# Altium schematic symbol library ST25RU3993_RF_MODULE.SCHLIB: 256 symbols (part 5 of 8)
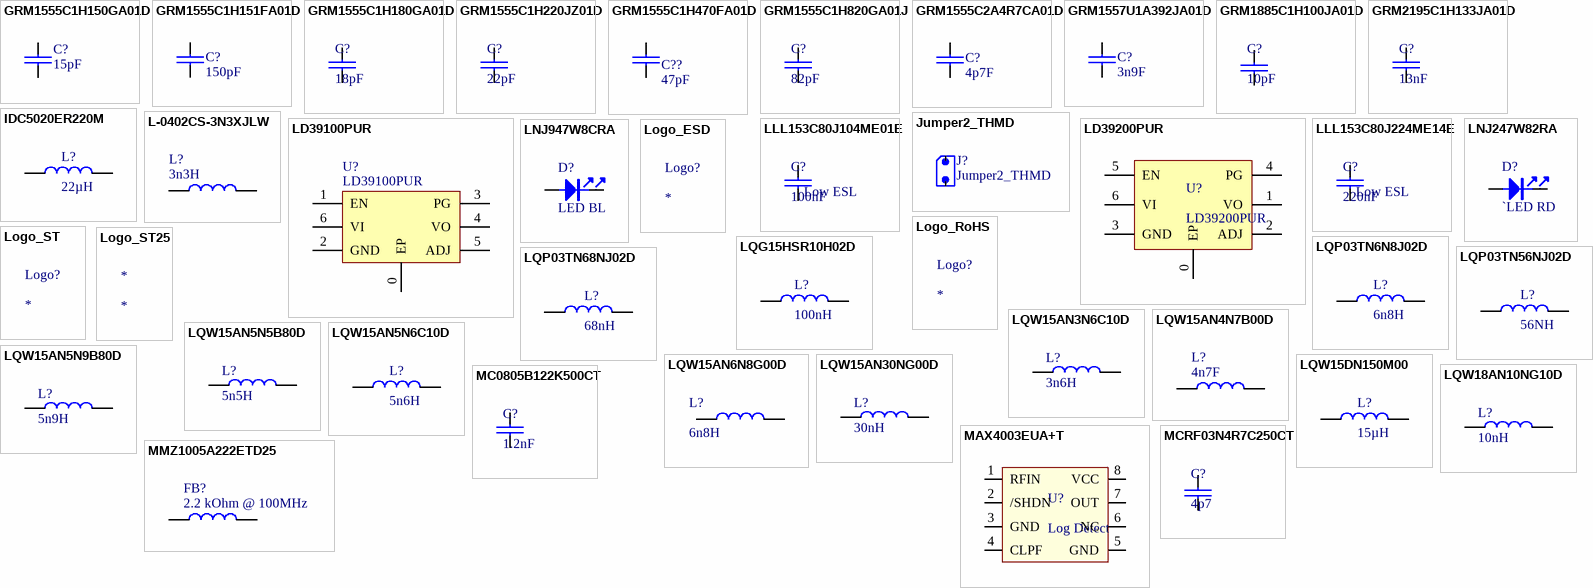
[diagram p10: symbols GRM1555C1H150GA01D to MMZ1005A222ETD25]

## GRM1885C1H100JA01D
designator C?, comment 10pF
CAP CER 10PF 50V NP0 0603; Manufacturer: Murata; Manufacturer Part Number: GRM1885C1H100JA01D; Dielectric Material: Ceramic; Dielectric: C0G; Tolerance: 5%; Temperature Coefficient: 30ppm/°C; Insulation Resistance: 10GR; Supplier 1: Future Electronics; Supplier Part Number 1: GRM1885C1H100JA01D-CUTT; RoHS: Yes; Stock: 547; Pricing: 1 = 0.03990, 100 = 0.02940, 250 = 0.02770, 500 = 0.02640, 1500 = 0.02300 (USD); Mount: Surface Mount; Case/Package: 0603; Number of Pins: 2; Case Code (Imperial): 0603; Case Code (Metric): 1608; Material: Ceramic; Min Operating Temperature: -55°C; Max Operating Temperature: 125°C; Capacitance: 10pF; Packaging: Tape and Reel; Voltage Rating: 50V; Voltage Rating (DC): 50V; Package Quantity: 1; Termination: SMD/SMT; Voltage: 50V; Length: 1.6mm; Height: 0.8mm; Width: 0.8mm; Thickness: 0.035inch; Depth: 0.8mm; Radiation Hardening: No; Lead Free: Lead Free; REACH SVHC: No SVHC; ComponentLink1URL: http://www.jameco.com/Jameco/Products/ProdDS/1856610.pdf; ComponentLink1Description: http://www.jameco.com/Jameco/Products/ProdDS/1856610.pdf; ComponentLink2URL: http://www.farnell.com/datasheets/2048236.pdf; ComponentLink2Description: http://www.farnell.com/datasheets/2048236.pdf; ComponentLink3URL: http://www.farnell.com/datasheets/1747452.pdf; ComponentLink3Description: http://www.farnell.com/datasheets/1747452.pdf; ComponentLink4URL: http://www.farnell.com/datasheets/4360.pdf; ComponentLink4Description: http://www.farnell.com/datasheets/4360.pdf; ComponentLink5URL: http://www.murata.com/products/catalog/pdf/c02e.pdf; ComponentLink5Description: http://www.murata.com/products/catalog/pdf/c02e.pdf; ComponentLink6URL: https://www.distrelec.biz/Web/Downloads/_t/ds/murata_MLCC_eng_tds.pdf?mime=application%2Fpdf; ComponentLink6Description: https://www.distrelec.biz/Web/Downloads/_t/ds/murata_MLCC_eng_tds.pdf?mime=application%2Fpdf; ComponentLink7URL: https://www.murata.com/~/media/webrenewal/support/library/catalog/products/capacitor/mlcc/c02e.ashx?la=en-us; ComponentLink7Description: https://www.murata.com/~/media/webrenewal/support/library/catalog/products/capacitor/mlcc/c02e.ashx?la=en-us; ComponentLink8URL: https://www.verical.com/server-webapp/html/getDatasheet?partID=161483; ComponentLink8Description: https://www.verical.com/server-webapp/html/getDatasheet?partID=161483; ComponentLink9URL: https://produktinfo.conrad.com/datenblaetter/450000-474999/450117-da-01-en-VS_KONDENSATOR_0603.pdf; ComponentLink9Description: https://produktinfo.conrad.com/datenblaetter/450000-474999/450117-da-01-en-VS_KONDENSATOR_0603.pdf
footprint C0603
pins: 1, 2

## GRM2195C1H133JA01D
designator C?, comment 13nF
Cap Ceramic 0.013uF 50V C0G 5% SMD 0805 125°C Paper T/R; Manufacturer: Murata; Manufacturer Part Number: GRM2195C1H133JA01D; Supplier 1: Digi-Key; Supplier Part Number 1: 490-12752-1-ND; Stock: 6548; Pricing: 1 = 0.43000, 10 = 0.30000, 100 = 0.17980, 500 = 0.13482, 1000 = 0.11385 (USD); Mount: Surface Mount; Case/Package: 0805; Case Code (Metric): 2012; Case Code (Imperial): 0805; Min Operating Temperature: -55°C; Max Operating Temperature: 125°C; Package Quantity: 4000; Capacitance: 13nF; Voltage Rating: 50V; Tolerance: 5%; Packaging: Tape and Reel; Voltage Rating (DC): 50V; Dielectric: C0G; Termination: SMD/SMT; Voltage: 50V; Length: 2mm; Height: 0.85mm; Width: 0.049inch; Thickness: 0.037inch; Depth: 1.25mm; Radiation Hardening: No; ComponentLink1URL: http://search.murata.co.jp/Ceramy/image/img/A01X/partnumbering_e_01.pdf; ComponentLink1Description: http://search.murata.co.jp/Ceramy/image/img/A01X/partnumbering_e_01.pdf; ComponentLink2URL: http://www.mouser.com/ds/2/281/c02e-2905.pdf; ComponentLink2Description: http://www.mouser.com/ds/2/281/c02e-2905.pdf; ComponentLink3URL: http://psearch.murata.com/capacitor/product/GRM2195C1H133JA01%23.pdf; ComponentLink3Description: http://psearch.murata.com/capacitor/product/GRM2195C1H133JA01%23.pdf; ComponentLink4URL: http://datasheet.octopart.com/GRM2195C1H133JA01D-Murata-datasheet-14401791.pdf; ComponentLink4Description: http://datasheet.octopart.com/GRM2195C1H133JA01D-Murata-datasheet-14401791.pdf; ComponentLink5URL: http://datasheet.octopart.com/GRM2195C1H133JA01D-Murata-datasheet-8819587.pdf; ComponentLink5Description: http://datasheet.octopart.com/GRM2195C1H133JA01D-Murata-datasheet-8819587.pdf; ComponentLink6URL: http://datasheet.octopart.com/GRM2195C1H133JA01D-Murata-datasheet-10025737.pdf; ComponentLink6Description: http://datasheet.octopart.com/GRM2195C1H133JA01D-Murata-datasheet-10025737.pdf; ComponentLink7URL: http://datasheet.octopart.com/GRM2195C1H133JA01D-Murata-datasheet-11978611.pdf; ComponentLink7Description: http://datasheet.octopart.com/GRM2195C1H133JA01D-Murata-datasheet-11978611.pdf; ComponentLink8URL: http://datasheet.octopart.com/GRM2195C1H133JA01D-Murata-datasheet-12510076.pdf; ComponentLink8Description: http://datasheet.octopart.com/GRM2195C1H133JA01D-Murata-datasheet-12510076.pdf; ComponentLink9URL: http://datasheet.octopart.com/GRM2195C1H133JA01D-Murata-datasheet-12515295.pdf; ComponentLink9Description: http://datasheet.octopart.com/GRM2195C1H133JA01D-Murata-datasheet-12515295.pdf; Supplier 2: Farnell; Supplier Part Number 2: 1759228; RoHS: Yes; REACH SVHC: Unknown
footprint C0805-ss
pins: 1, 2

## IDC5020ER220M
designator L?, comment 22µH
Fixed Inductors 22uH 20%; Manufacturer: Vishay Dale; Manufacturer Part Number: IDC5020ER220M; Core Material: Ferrite; DC Resistance (DCR): 85mR; Shielding: Unshielded; Test Frequency: 100kHz; Saturation Current: 2.6A; Current Rating: 2.7A; Supplier 1: Mouser; Supplier Part Number 1: 70-IDC5020ER220M; RoHS: Yes; Stock: 293; Pricing: 1 = 0.80000, 10 = 0.72500, 50 = 0.61800, 100 = 0.59900, 1000 = 0.51200, 10000 = 0.49600 (USD); Mount: Surface Mount; Case/Package: Nonstandard; Contact Plating: Tin; Min Operating Temperature: -40°C; Max Operating Temperature: 125°C; Tolerance: 20%; Packaging: Tape and Reel; Inductance: 22uh; Package Quantity: 500; Composition: Wirewound; Military Standard: Not; Termination: SMD/SMT; Max DC Current: 2.7A; Length: 12.95mm; Height: 5.21mm; Width: 9.4mm; Depth: 9.4mm; Height - Seated (Max): 0.205inch; Radiation Hardening: No; ComponentLink1URL: http://www.vishay.com/docs/34007/idc5020.pdf; ComponentLink1Description: http://www.vishay.com/docs/34007/idc5020.pdf
footprint IDC-5020 (High Current, Surface Mount Inductors - Non-Shielded)
pins: 1, 2

## Jumper2_THMD
designator J?
Manufacturer: Amphenol FCI; Manufacturer Part Number: 77311-118-02LF; Connector Type: Header; Pitch - Mating: 0.100" (2.54mm); Style: Board to Board; Shrouding: Unshrouded; Number of Positions: 2; Number of Positions Loaded: All; Contact Length - Mating: 0.230" (5.84mm); Contact Length - Post: 0.120" (3.05mm); Overall Contact Length: 0.450" (11.43mm); Material Flammability Rating: UL94 V-0; Supplier 1: Digi-Key; Supplier Part Number 1: 609-4434-ND; RoHS: RoHS Compliant; Category: Connectors, Interconnects; Stock: 19830; Pricing: 1=0.15, 10=0.143, 100=0.0986, 500=0.08348, 1000=0.06829, 5000=0.06071, 10000=0.05502 (EUR); Packaging: Bulk; Part Status: Active; Contact Type: Male Pin; Number of Rows: 1; Row Spacing - Mating: -; Mounting Type: Through Hole; Termination: Solder; Fastening Type: Push-Pull; Insulation Height: 0.100" (2.54mm); Contact Shape: Square; Contact Finish - Mating: Gold or Gold, GXT™; Contact Finish Thickness - Mating: 30µin (0.76µm); Contact Finish - Post: Tin; Contact Material: Phosphor Bronze; Insulation Material: Thermoplastic; Features: -; Operating Temperature: -; Ingress Protection: -; Insulation Color: Black; Current Rating: -; Voltage Rating: -; Mated Stacking Heights: -; Contact Finish Thickness - Post: 78.7µin (2.00µm); Applications: -; ComponentLink1URL: http://portal.fciconnect.com/Comergent//fci/drawing/77311.pdf; ComponentLink1Description: http://portal.fciconnect.com/Comergent//fci/drawing/77311.pdf
footprint PLUG_THMD_STRIP2 - DNP
pins: 1, 2

## L-0402CS-3N3XJLW
designator L?, comment 3n3H
INDUCTOR, 3.3NH, 5%, 7GHZ, SMD, REEL; Manufacturer 1: COILCRAFT; Manufacturer Part Number 1: 0402CS-3N3XJLW; Product Range: 0402; Inductance: 3.3; DC Current Rating: 840; High Frequency Inductor Case: 0402 [1005 Metric]; Inductor Construction: Wirewound; DC Resistance Max: 0.066; Self Resonant Frequency Min: 7; SVHC: No SVHC (15-Jun-2015); Automotive Qualification Standard: AEC-Q200; Reel Quantity: 2000; Exact Component Match: yes; Supplier 1: Farnell; Supplier Part Number 1: 2298469; RoHS: Y-EX; Pricing 1: 2000=0.28, 10000=0.258, 20000=0.253 (GBP); Inductance Tolerance: ± 5%; Packaging: Tape & Reel; Inductor Case Style: 0402 [1005 Metric]; ComponentLink1URL: http://www.farnell.com/datasheets/1681871.pdf; ComponentLink1Description: http://www.farnell.com/datasheets/1681871.pdf; Manufacturer: COILCRAFT; Manufacturer Part Number: 0402CS-3N3XJLW
footprint L0402-RF
pins: 1, 2

## LD39100PUR
designator U?
IC REG LDO ADJ 1A 6DFN; Manufacturer: STMicroelectronics; Regulator Topology: Positive Adjustable; Voltage - Output: 0.8 V ~ 4.5 V; Voltage - Dropout (Typical): 0.2V @ 1A; Number of Regulators: 1; Voltage - Input: 1.5 V ~ 5.5 V; Exact Component Match: yes; Supplier 1: Digi-Key; Supplier Part Number 1: 497-11013-6-ND; Manufacturer Part Number: LD39100PUR; RoHS: RoHS Compliant; Category: Integrated Circuits (ICs); Stock 1: 26415; Pricing 1: 1=0.77, 10=0.684, 100=0.5334, 500=0.4411, 1000=0.34883 (EUR); Packaging: Digi-Reel®; Part Status: Active; Current - Output: 1A; Current - Limit (Min): -; Operating Temperature: -40°C ~ 125°C; Mounting Type: Surface Mount; Package / Case: 6-VDFN Exposed Pad; Supplier Device Package: 6-DFN (3x3); ComponentLink1URL: http://www.st.com/content/ccc/resource/technical/document/datasheet/72/02/e5/ee/df/36/40/5e/CD00233788.pdf/files/CD00233788.pdf/jcr:content/translations/en.CD00233788.pdf; ComponentLink1Description: http://www.st.com/content/ccc/resource/technical/document/datasheet/72/02/e5/ee/df/36/40/5e/CD00233788.pdf/files/CD00233788.pdf/jcr:content/translations/en.CD00233788.pdf; Manufacturer 1: STMicroelectronics; Manufacturer Part Number 1: LD39100PUR
footprint LD39100PUR (1 A, low quiescent current, low-noise voltage regulator)
pins: 0 EP, 1 EN, 2 GND, 3 PG, 4 VO, 5 ADJ, 6 VI

## LD39200PUR
designator U?
Manufacturer: STMicroelectronics; Capacitance: 10uF; Tolerance: 20%; Dielectric: X6S; Voltage Rating (DC): 10V; Supplier 1: Digi-Key; Supplier Part Number 1: 497-17110-1-ND; Manufacturer Part Number: LD39200PUR; Stock: 2610; Pricing: 1=0.89, 10=0.796, 100=0.6207, 500=0.51274, 1000=0.40479 (USD); Supplier 2: Digi-Key; Supplier Part Number 2: 490-7197-1-ND; Mount: Surface Mount; Case/Package: 0603; Case Code (Metric): 1608; Case Code (Imperial): 0603; Material: Ceramic; Min Operating Temperature: -55°C; Max Operating Temperature: 105°C; Package Quantity: 4000; Packaging: Cut Tape; Voltage Rating: 10V; Length: 0.063inch; Height: 0.8mm; Width: 0.031inch; Thickness: 0.031inch; REACH SVHC: No SVHC; Lead Free: Lead Free; ComponentLink1URL: https://www.murata.com/~/media/webrenewal/support/library/catalog/products/capacitor/mlcc/c02e.ashx?la=en-us; ComponentLink1Description: https://www.murata.com/~/media/webrenewal/support/library/catalog/products/capacitor/mlcc/c02e.ashx?la=en-us
footprint LD39200PUR (2 A, low quiescent current, low-noise voltage regulator)
pins: 0 EP, 1 VO, 2 ADJ, 3 GND, 4 PG, 5 EN, 6 VI

## LLL153C80J104ME01E
designator C?, comment 100nF  Features: Low ESL
CAP CER 0.1UF 6.3V X6S 0204; Manufacturer: Murata Electronics North America; Manufacturer Part Number: LLL153C80J104ME01E; Tolerance: ±20%; Type: Steering (Rail to Rail); Voltage - Reverse Standoff (Typ): 5.25V; Voltage - Breakdown (Min): 6V; Power - Peak Pulse: 500W; Power Line Protection: Yes; Supplier 1: Digi-Key; RoHS: RoHS Compliant; Category: Capacitors; Stock: 1389; Pricing 1: 1=0.19, 10=0.133, 100=0.0671, 500=0.0459, 1000=0.04061, 2500=0.03884, 5000=0.03531 (EUR); Packaging: Cut Tape (CT); Part Status: Active; Voltage - Rated: 6.3V; Temperature Coefficient: X6S; Operating Temperature: -55°C ~ 105°C; Ratings: -; Applications: Bypass, Decoupling; Mounting Type: Surface Mount, MLCC; Package / Case: 0204 (0510 Metric); Size / Dimension: 0.020" L x 0.039" W (0.50mm x 1.00mm); Height - Seated (Max): -; Thickness (Max): 0.014" (0.35mm); Lead Spacing: -; Lead Style: -; ComponentLink1URL: http://www.murata.com/~/media/webrenewal/support/library/catalog/products/capacitor/mlcc/c02e.ashx; ComponentLink1Description: http://www.murata.com/~/media/webrenewal/support/library/catalog/products/capacitor/mlcc/c02e.ashx; Supplier Part Number 1: 490-4310-1-ND; Supplier 2: Digi-Key; Pricing 2: 1=0.97, 10=0.867, 100=0.6756, 500=0.55814, 1000=0.44063 (EUR); Voltage - Clamping (Max) @ Ipp: -; Current - Peak Pulse (10/1000µs): -; Capacitance @ Frequency: -; Supplier Device Package: 8-SO; ComponentLink2URL: http://www.st.com/content/ccc/resource/technical/document/datasheet/3e/ec/b2/54/b2/76/47/90/CD00001361.pdf/files/CD00001361.pdf/jcr:content/translations/en.CD00001361.pdf; ComponentLink2Description: http://www.st.com/content/ccc/resource/technical/document/datasheet/3e/ec/b2/54/b2/76/47/90/CD00001361.pdf/files/CD00001361.pdf/jcr:content/translations/en.CD00001361.pdf; Supplier Part Number 2: 497-3281-1-ND
footprint C0402-LLL
pins: 1, 2

## LLL153C80J224ME14E
designator C?, comment 220nF  Features: Low ESL
CAP CER 0.22UF 6.3V X6S 0204; Manufacturer: Murata Electronics North America; Manufacturer Part Number: LLL153C80J224ME14E; Tolerance: ±20%; Supplier 1: Digi-Key; Category: Capacitors; Stock: 67835; Pricing 1: 1=0.2, 10=0.142, 100=0.0718, 500=0.04912, 1000=0.04347, 2500=0.04158, 5000=0.0378 (EUR); Packaging: Cut Tape (CT); Part Status: Active; Voltage - Rated: 6.3V; Temperature Coefficient: X6S; Operating Temperature: -55°C ~ 105°C; Ratings: -; Applications: Bypass, Decoupling; Mounting Type: Surface Mount, MLCC; Package / Case: 0204 (0510 Metric); Size / Dimension: 0.020" L x 0.039" W (0.50mm x 1.00mm); Height - Seated (Max): -; Thickness (Max): 0.014" (0.35mm); Lead Spacing: -; Lead Style: -; ComponentLink1URL: http://www.murata.com/~/media/webrenewal/support/library/catalog/products/capacitor/mlcc/c02e.ashx; ComponentLink1Description: http://www.murata.com/~/media/webrenewal/support/library/catalog/products/capacitor/mlcc/c02e.ashx; Supplier Part Number 1: 490-8384-1-ND; RoHS: RoHS Compliant
footprint C0402-LLL
pins: 1, 2

## LNJ247W82RA
designator D?, comment `LED RD
LED RED 0402 SMD; Manufacturer: Panasonic Electronic Components; Manufacturer Part Number: LNJ247W82RA; Millicandela Rating: 16mcd; Lens Style/Size: Rectangle with Flat Top, 0.70mm x 0.50mm; Voltage - Forward (Vf) (Typ): 1.95V; Current - Test: 5mA; Wavelength - Dominant: 630nm; Wavelength - Peak: 645nm; Supplier 1: Digi-Key; Supplier Part Number 1: LNJ247W82RACT-ND; RoHS: RoHS Compliant; Category: Optoelectronics; Stock: 202393; Pricing: 1=0.38, 10=0.265, 25=0.2296, 100=0.1768, 250=0.1436, 500=0.10606, 1000=0.08838, 2500=0.07954 (EUR); Packaging: Cut Tape (CT); Part Status: Not For New Designs; Color: Red; Lens Color: -; Lens Transparency: -; Viewing Angle: -; Mounting Type: Surface Mount; Features: -; Package / Case: 0402 (1005 Metric); Supplier Device Package: 1005 Type; Size / Dimension: 1.00mm L x 0.50mm W; Height (Max): 0.25mm; Base Part Number: LNJ*47; ComponentLink1URL: https://industrial.panasonic.com/content/data/SC/ds/ds4/LNJ247W82RA_E.pdf; ComponentLink1Description: https://industrial.panasonic.com/content/data/SC/ds/ds4/LNJ247W82RA_E.pdf
footprint LNJ947W8CRA (Blue 472nm LED Indication - Discrete 2.9V)
pins: 1, 2

## LNJ947W8CRA
designator D?, comment LED BL
LED BLUE 0402 SMD; Manufacturer 1: Panasonic Electronic Components; Manufacturer Part Number 1: LNJ947W8CRA; Millicandela Rating: 18mcd; Lens Style/Size: Rectangle with Flat Top, 0.70mm x 0.50mm; Voltage - Forward (Vf) (Typ): 2.9V; Current - Test: 5mA; Wavelength - Dominant: 472nm; Wavelength - Peak: 465nm; Exact Component Match: no; Supplier 1: Digi-Key; Supplier Part Number 1: LNJ947W8CRADKR-ND; RoHS: RoHS Compliant; Category: Optoelectronics; Stock 1: 48594; Pricing 1: 1=0.45, 10=0.35, 25=0.2852, 100=0.2269, 250=0.19444, 500=0.16852, 1000=0.12963, 2500=0.11666 (EUR); Packaging: Digi-Reel®; Part Status: Active; Color: Blue; Lens Color: -; Lens Transparency: -; Viewing Angle: -; Mounting Type: Surface Mount; Features: -; Package / Case: 0402 (1005 Metric); Supplier Device Package: 0402 (1005 Metric); Size / Dimension: 1.00mm L x 0.50mm W; Height (Max): 0.25mm; ComponentLink1URL: http://www.semicon.panasonic.co.jp/ds4/LNJ947W8CRA_E.pdf; ComponentLink1Description: http://www.semicon.panasonic.co.jp/ds4/LNJ947W8CRA_E.pdf; Manufacturer: Panasonic Electronic Components; Manufacturer Part Number: LNJ947W8CRA
footprint LNJ947W8CRA (Blue 472nm LED Indication - Discrete 2.9V)
pins: 1, 2

## Logo_ESD
designator Logo?
footprint Logo_ESD (Silk only)

## Logo_RoHS
designator Logo?
footprint Logo_RoHS (Silk only)
footprint logo_Rohs_large

## Logo_ST
designator Logo?  (no BOM)
footprint LOGO_STM_life (life.augmented)
footprint LOGO_STM (logo only)

## Logo_ST25
designator *
footprint Logo_ST25 (Silk Only)

## LQG15HSR10H02D
designator L?, comment 100nH
FIXED IND 100NH 200MA 1.25 OHM; Manufacturer: Murata Electronics North America; Manufacturer Part Number: LQG15HSR10H02D; Type: Multilayer; Material - Core: Air; Tolerance: ±3%; Shielding: Unshielded; DC Resistance (DCR): 1.25 Ohm Max; Supplier 1: Digi-Key; Supplier Part Number 1: 490-15137-1-ND; RoHS: RoHS Compliant; Category: Inductors, Coils, Chokes; Stock: 9800; Pricing: 1=0.08, 10=0.064, 100=0.0424, 500=0.0354, 1000=0.02973, 2500=0.02548 (EUR); Packaging: Cut Tape (CT); Part Status: Active; Ratings: -; Operating Temperature: -55°C ~ 125°C; Mounting Type: Surface Mount; Package / Case: 0402 (1005 Metric); Supplier Device Package: 0402 (1005 Metric); Size / Dimension: 0.039" L x 0.020" W (1.00mm x 0.50mm); Height - Seated (Max): 0.022" (0.55mm); ComponentLink1URL: http://search.murata.co.jp/Ceramy/image/img/P02/JELF243B-0010.pdf; ComponentLink1Description: http://search.murata.co.jp/Ceramy/image/img/P02/JELF243B-0010.pdf
footprint L0402-RF
pins: 1, 2

## LQP03TN6N8J02D
designator L?, comment 6n8H
Fixed Inductors 6.8nH 5% 500MHz; Manufacturer: Murata; Manufacturer Part Number: LQP03TN6N8J02D; Core Material: Non-Magnetic; DC Resistance (DCR): 600mR; Max DC Current: 300mA; Shielding: Unshielded; Self Resonant Frequency: 3.9GHz; Q Factor: 14; Supplier 1: Arrow; Supplier Part Number 1: LQP03TN6N8J02D; Stock: 0; Mount: Surface Mount; Case/Package: 0201; Weight: 6E-06oz; Case Code (Metric): 0603; Case Code (Imperial): 0201; Min Operating Temperature: -55°C; Max Operating Temperature: 125°C; Tolerance: 5%; Inductance: 6.8nh; Packaging: Tape and Reel; Package Quantity: 15000; Current Rating: 300mA; Composition: Thin Film; Test Frequency: 500MHz; Termination: SMD/SMT; DC Current: 300mA; Military Standard: Not; Length: 0.024inch; Height: 0.3mm; Depth: 0.33mm; Width: 0.012inch; Height - Seated (Max): 0.013inch; Radiation Hardening: No; ComponentLink1URL: http://components.arrow.com/part/dataview/49670612S8721694N2606; ComponentLink1Description: http://components.arrow.com/part/dataview/49670612S8721694N2606; ComponentLink2URL: http://components.arrow.com/part/dataview/0323_03061082; ComponentLink2Description: http://components.arrow.com/part/dataview/0323_03061082; ComponentLink3URL: http://www.murata.com/~/media/webrenewal/support/library/catalog/products/inductor/chip/o05e.ashx; ComponentLink3Description: http://www.murata.com/~/media/webrenewal/support/library/catalog/products/inductor/chip/o05e.ashx; ComponentLink4URL: http://psearch.en.murata.com/inductor/product/LQP03TN6N8J02%23.pdf; ComponentLink4Description: http://psearch.en.murata.com/inductor/product/LQP03TN6N8J02%23.pdf; ComponentLink5URL: http://www.mouser.com/ds/2/281/c51e-794816.pdf; ComponentLink5Description: http://www.mouser.com/ds/2/281/c51e-794816.pdf; ComponentLink6URL: http://search.murata.co.jp/Ceramy/image/img/PDF/CHN/L0075S0084LQP03T_02.pdf; ComponentLink6Description: http://search.murata.co.jp/Ceramy/image/img/PDF/CHN/L0075S0084LQP03T_02.pdf
footprint L0201-RF
pins: 1, 2

## LQP03TN56NJ02D
designator L?, comment 56NH
FIXED IND 56NH 100MA 3.9 OHM SMD; Manufacturer: Murata Electronics North America; Manufacturer Part Number: LQP03TN56NJ02D; Type: Thin Film; Material - Core: Non-Magnetic; Tolerance: ±5%; Shielding: Unshielded; DC Resistance (DCR): 3.9 Ohm Max; Q @ Freq: 9 @ 300MHz; Frequency - Self Resonant: 1.2GHz; Supplier 1: Digi-Key; Supplier Part Number 1: 490-6732-1-ND; RoHS: RoHS Compliant; Category: Inductors, Coils, Chokes; Stock: 17412; Pricing: 1=0.09, 10=0.037, 100=0.0255, 500=0.02064, 1000=0.01762, 2500=0.01575 (EUR); Packaging: Cut Tape (CT); Part Status: Active; Current - Saturation: -; Ratings: -; Operating Temperature: -55°C ~ 125°C; Mounting Type: Surface Mount; Package / Case: 0201 (0603 Metric); Supplier Device Package: 0201 (0603 Metric); Size / Dimension: 0.024" L x 0.012" W (0.60mm x 0.30mm); Height - Seated (Max): 0.013" (0.33mm); ComponentLink1URL: http://search.murata.co.jp/Ceramy/image/img/P02/JELF243C-0015.pdf; ComponentLink1Description: http://search.murata.co.jp/Ceramy/image/img/P02/JELF243C-0015.pdf
footprint L0201-RF
pins: 1, 2

## LQP03TN68NJ02D
designator L?, comment 68nH
FIXED IND 68NH 100MA 8 OHM SMD; Manufacturer: Murata Electronics North America; Manufacturer Part Number: LQP03TN68NJ02D; Type: Thin Film; Material - Core: Non-Magnetic; Tolerance: ±5%; Shielding: Unshielded; DC Resistance (DCR): 8 Ohm Max; Q @ Freq: 8 @ 300MHz; Frequency - Self Resonant: 1.1GHz; Supplier 1: Digi-Key; Supplier Part Number 1: 490-6735-1-ND; RoHS: RoHS Compliant; Category: Inductors, Coils, Chokes; Stock: 38420; Pricing: 1=0.09, 10=0.041, 100=0.027, 500=0.02248, 1000=0.01889, 2500=0.01619 (EUR); Packaging: Cut Tape (CT); Part Status: Active; Current - Saturation: -; Ratings: -; Operating Temperature: -55°C ~ 125°C; Mounting Type: Surface Mount; Package / Case: 0201 (0603 Metric); Supplier Device Package: 0201 (0603 Metric); Size / Dimension: 0.024" L x 0.012" W (0.60mm x 0.30mm); Height - Seated (Max): 0.013" (0.33mm); ComponentLink1URL: http://search.murata.co.jp/Ceramy/image/img/P02/JELF243C-0015.pdf; ComponentLink1Description: http://search.murata.co.jp/Ceramy/image/img/P02/JELF243C-0015.pdf
footprint L0201-RF
pins: 1, 2

## LQW15AN3N6C10D
designator L?, comment 3n6H
FIXED IND 3.6NH 900MA 40 MOHM; Manufacturer: Murata Electronics North America; Manufacturer Part Number: LQW15AN3N6C10D; Type: Wirewound; Material - Core: Non-Magnetic; Tolerance: ±0.2nH; Shielding: Unshielded; DC Resistance (DCR): 40 mOhm Max; Q @ Freq: 30 @ 250MHz; Frequency - Self Resonant: 9.5GHz; Frequency - Test: 100MHz; Supplier 1: Digi-Key; Supplier Part Number 1: 490-6811-1-ND; RoHS: RoHS Compliant; Category: Inductors, Coils, Chokes; Stock 1: 13387; Pricing 1: 1=0.19, 10=0.173, 25=0.1556, 50=0.1348, 100=0.1209, 250=0.11228, 500=0.10366, 750=0.09848, 1000=0.08984 (EUR); Packaging: Cut Tape (CT); Part Status: Active; Inductance: 3.6nH; Current Rating: 900mA; Current - Saturation: -; Ratings: -; Operating Temperature: -55°C ~ 125°C; Mounting Type: Surface Mount; Package / Case: 0402 (1005 Metric); Supplier Device Package: 0402 (1005 Metric); Size / Dimension: 0.039" L x 0.020" W (1.00mm x 0.50mm); Height - Seated (Max): 0.024" (0.60mm); ComponentLink1URL: http://search.murata.co.jp/Ceramy/image/img/PDF/ENG/L0075S0080LQW15A_10.pdf; ComponentLink1Description: http://search.murata.co.jp/Ceramy/image/img/PDF/ENG/L0075S0080LQW15A_10.pdf
footprint L0402-RF
pins: 1, 2

## LQW15AN4N7B00D
designator L?, comment 4n7F
FIXED IND 4.7NH 750MA 70 MOHM; Manufacturer: Murata Electronics North America; Manufacturer Part Number: LQW15AN4N7B00D; Type: Wirewound; Material - Core: Non-Magnetic; Tolerance: ±0.1nH; Shielding: Unshielded; DC Resistance (DCR): 70 mOhm Max; Q @ Freq: 25 @ 250MHz; Frequency - Self Resonant: 8GHz; Frequency - Test: 100MHz; Exact Component Match: yes; Supplier 1: Digi-Key; Supplier Part Number 1: 490-6825-1-ND; RoHS: RoHS Compliant; Category: Inductors, Coils, Chokes; Stock 1: 30812; Pricing 1: 1=0.16, 10=0.149, 25=0.1336, 50=0.116, 100=0.104, 250=0.09652, 500=0.08912, 750=0.08467, 1000=0.07724 (EUR); Packaging: Cut Tape (CT); Part Status: Active; Inductance: 4.7nH; Current Rating: 750mA; Current - Saturation: -; Ratings: -; Operating Temperature: -55°C ~ 125°C; Mounting Type: Surface Mount; Package / Case: 0402 (1005 Metric); Size / Dimension: 0.039" L x 0.020" W (1.00mm x 0.50mm); Height - Seated (Max): 0.024" (0.60mm); ComponentLink1URL: http://search.murata.co.jp/Ceramy/image/img/PDF/ENG/L0075S0080LQW15A_00.pdf; ComponentLink1Description: http://search.murata.co.jp/Ceramy/image/img/PDF/ENG/L0075S0080LQW15A_00.pdf; Manufacturer 1: Murata Electronics North America; Manufacturer Part Number 1: LQW15AN4N7B00D
footprint L0402-RF
pins: 1, 2

## LQW15AN5N5B80D
designator L?, comment 5n5H
FIXED IND 5.5NH 1.77A 40 MOHM; Manufacturer: Murata Electronics North America; Manufacturer Part Number: LQW15AN5N5B80D; Type: Wirewound; Material - Core: Non-Magnetic; Tolerance: ±0.1nH; Shielding: Unshielded; DC Resistance (DCR): 40 mOhm Max; Q @ Freq: 35 @ 250MHz; Frequency - Self Resonant: 8GHz; Frequency - Test: 100MHz; Supplier 1: Digi-Key; RoHS: RoHS Compliant; Category: Inductors, Coils, Chokes; Stock: 7124; Pricing 1: 1=0.42, 10=0.366, 25=0.3208, 50=0.275, 100=0.252, 250=0.22916, 500=0.2154, 1000=0.16499, 5000=0.14666 (EUR); Packaging: Cut Tape (CT); Part Status: Active; Inductance: 5.5nH; Current Rating: 1.77A; Current - Saturation: -; Ratings: -; Operating Temperature: -55°C ~ 125°C; Mounting Type: Surface Mount; Package / Case: 0402 (1005 Metric); Supplier Device Package: 0402 (1005 Metric); Size / Dimension: 0.039" L x 0.020" W (1.00mm x 0.50mm); Height - Seated (Max): 0.024" (0.60mm); ComponentLink1URL: http://psearch.en.murata.com/inductor/product/LQW15AN5N5B80#.pdf; ComponentLink1Description: http://psearch.en.murata.com/inductor/product/LQW15AN5N5B80#.pdf; Supplier Part Number 1: 490-7660-1-ND
footprint L0402-RF
pins: 1, 2

## LQW15AN5N6C10D
designator L?, comment 5n6H
Inductor RF Chip Wirewound 5.6nH 0.2nH 100MHz 30Q-Factor 800mA 51mOhm DCR 0402 T/R; Manufacturer: Murata; Manufacturer Part Number: LQW15AN5N6C10D; Core Material: Air; Self Resonant Frequency: 8GHz; Shielding: Unshielded; DC Resistance (DCR): 51mR; Q Factor: 30; Supplier 1: Digi-Key; Supplier Part Number 1: 490-6833-6-ND; Stock: 203854; Pricing: 1=0.21, 10=0.186, 100=0.1242, 500=0.1035, 1000=0.08694, 2500=0.07452 (USD); Mount: Surface Mount; Case/Package: 0402; Number of Pins: 2; Weight: 2.8E-05oz; Case Code (Metric): 1005; Case Code (Imperial): 0402; Min Operating Temperature: -55°C; Max Operating Temperature: 125°C; Package Quantity: 1; Current Rating: 800mA; Packaging: Tape and Reel; Inductance: 5.6nh; Max DC Current: 800mA; Termination: SMD/SMT; Test Frequency: 100MHz; Composition: Wirewound; DC Current: 800mA; Military Standard: Not; Length: 1mm; Height: 0.5mm; Width: 0.5mm; Depth: 0.7mm; Radiation Hardening: No; REACH SVHC: No SVHC; Lead Free: Lead Free; ComponentLink1URL: http://search.murata.co.jp/Ceramy/image/img/PDF/ENG/L0075S0080LQW15A_10.pdf; ComponentLink1Description: http://search.murata.co.jp/Ceramy/image/img/PDF/ENG/L0075S0080LQW15A_10.pdf; ComponentLink2URL: https://www.verical.com/server-webapp/html/getDatasheet?partID=103959; ComponentLink2Description: https://www.verical.com/server-webapp/html/getDatasheet?partID=103959; ComponentLink3URL: https://www.murata.com/~/media/webrenewal/support/library/catalog/products/inductor/chip/o05e.ashx?la=en-us; ComponentLink3Description: https://www.murata.com/~/media/webrenewal/support/library/catalog/products/inductor/chip/o05e.ashx?la=en-us
footprint L0402-RF
pins: 1, 2

## LQW15AN5N9B80D
designator L?, comment 5n9H
FIXED IND 5.9NH 1.77A 40 MOHM; Manufacturer: Murata Electronics North America; Manufacturer Part Number: LQW15AN5N9B80D; Type: Wirewound; Material - Core: Non-Magnetic; Tolerance: ±0.1nH; Shielding: Unshielded; DC Resistance (DCR): 40 mOhm Max; Q @ Freq: 30 @ 250MHz; Frequency - Self Resonant: 8GHz; Frequency - Test: 100MHz; Supplier 1: Digi-Key; RoHS: RoHS Compliant; Category: Inductors, Coils, Chokes; Stock: 4703; Pricing 1: 1=0.42, 10=0.366, 25=0.3208, 50=0.275, 100=0.252, 250=0.22916, 500=0.2154, 1000=0.16499, 5000=0.14666 (EUR); Packaging: Cut Tape (CT); Part Status: Active; Inductance: 5.9nH; Current Rating: 1.77A; Current - Saturation: -; Ratings: -; Operating Temperature: -55°C ~ 125°C; Mounting Type: Surface Mount; Package / Case: 0402 (1005 Metric); Supplier Device Package: 0402 (1005 Metric); Size / Dimension: 0.039" L x 0.020" W (1.00mm x 0.50mm); Height - Seated (Max): 0.024" (0.60mm); ComponentLink1URL: http://psearch.en.murata.com/inductor/product/LQW15AN5N9B80#.pdf; ComponentLink1Description: http://psearch.en.murata.com/inductor/product/LQW15AN5N9B80#.pdf; Supplier Part Number 1: 490-7663-1-ND
footprint L0402-RF
pins: 1, 2

## LQW15AN6N8G00D
designator L?, comment 6n8H
FIXED IND 6.8NH 700MA 90 MOHM; Manufacturer: Murata Electronics North America; Manufacturer Part Number: LQW15AN6N8G00D; Type: Wirewound; Material - Core: Non-Magnetic; Tolerance: ±2%; Shielding: Unshielded; DC Resistance (DCR): 90 mOhm Max; Q @ Freq: 25 @ 250MHz; Supplier 1: Digi-Key; RoHS: RoHS Compliant; Category: Inductors, Coils, Chokes; Stock: 89299; Pricing 1: 1=0.16, 10=0.145, 100=0.0967, 500=0.08054, 1000=0.06765, 2500=0.05798 (EUR); Packaging: Cut Tape (CT); Part Status: Active; Ratings: -; Operating Temperature: -55°C ~ 125°C; Mounting Type: Surface Mount; Package / Case: Nonstandard; Supplier Device Package: 0402 (1005 Metric); Size / Dimension: 0.039" L x 0.020" W (1.00mm x 0.50mm); Height - Seated (Max): 0.024" (0.60mm); ComponentLink1URL: http://search.murata.co.jp/Ceramy/image/img/P02/JELF243A-0050.pdf; ComponentLink1Description: http://search.murata.co.jp/Ceramy/image/img/P02/JELF243A-0050.pdf; Supplier Part Number 1: 490-6840-1-ND
footprint L0402-RF
pins: 1, 2

## LQW15AN30NG00D
designator L?, comment 30nH
FIXED IND 30NH 270MA 580 MOHM; Manufacturer: Murata Electronics North America; Manufacturer Part Number: LQW15AN30NG00D; Type: Wirewound; Material - Core: Non-Magnetic; Tolerance: ±2%; Shielding: Unshielded; DC Resistance (DCR): 580 mOhm Max; Q @ Freq: 25 @ 250MHz; Frequency - Self Resonant: 3.3GHz; Frequency - Test: 100MHz; Supplier 1: Digi-Key; Supplier Part Number 1: 490-6802-1-ND; RoHS: RoHS Compliant; Category: Inductors, Coils, Chokes; Stock 1: 10167; Pricing 1: 1=0.17, 10=0.158, 25=0.1424, 50=0.1236, 100=0.1109, 250=0.10292, 500=0.09502, 750=0.09027, 1000=0.08235 (EUR); Packaging: Cut Tape (CT); Part Status: Active; Inductance: 30nH; Current Rating: 270mA; Current - Saturation: -; Ratings: -; Operating Temperature: -55°C ~ 125°C; Mounting Type: Surface Mount; Package / Case: 0402 (1005 Metric); Supplier Device Package: 0402 (1005 Metric); Size / Dimension: 0.039" L x 0.020" W (1.00mm x 0.50mm); Height - Seated (Max): 0.024" (0.60mm); ComponentLink1URL: http://search.murata.co.jp/Ceramy/image/img/PDF/ENG/L0075S0080LQW15A_00.pdf; ComponentLink1Description: http://search.murata.co.jp/Ceramy/image/img/PDF/ENG/L0075S0080LQW15A_00.pdf
footprint L0402-RF
pins: 1, 2

## LQW15DN150M00
designator L?, comment 15µH
FIXED IND 15UH 100MA 5.7 OHM SMD; Manufacturer: Murata Electronics North America; Manufacturer Part Number: LQW15DN150M00; Type: Wirewound; Tolerance: ±20%; Shielding: Shielded; DC Resistance (DCR): 6.55 Ohm Max; Supplier 1: Murata; Supplier Part Number 1: LQW15DN150M00; RoHS: RoHS Compliant; Category: Inductors, Coils, Chokes; Packaging: Cut Tape (CT); Part Status: Active; Operating Temperature: -40°C ~ 85°C; Mounting Type: Surface Mount; Package / Case: 0402 (1005 Metric); Supplier Device Package: 0402 (1005 Metric); Size / Dimension: 0.039" L x 0.020" W (1.00mm x 0.50mm); Height - Seated (Max): 0.024" (0.60mm); ComponentLink1URL: http://search.murata.co.jp/Ceramy/image/img/P02/JELF243A-0050.pdf; ComponentLink1Description: http://search.murata.co.jp/Ceramy/image/img/P02/JELF243A-0050.pdf
footprint L0402-RF
pins: 1, 2

## LQW18AN10NG10D
designator L?, comment 10nH
FIXED IND 10NH 800MA 58 MOHM SMD; Manufacturer 1: Murata Electronics North America; Manufacturer Part Number 1: LQW18AN10NG10D; Type: Wirewound; Material - Core: Non-Magnetic; Tolerance: ±2%; Shielding: Unshielded; DC Resistance (DCR): 58 mOhm Max; Q @ Freq: 38 @ 250MHz; Frequency - Self Resonant: 5GHz; Frequency - Test: 100MHz; Capacitance: 5.6pF; Voltage - Rated: 50V; Temperature Coefficient: C0G, NP0; Exact Component Match: yes; Max DC Current: 300mA; Self Resonant Frequency: 3.9GHz; Test Frequency: 500MHz; Q Factor: 14; Supplier 1: Digi-Key; Supplier Part Number 1: 490-6857-1-ND; RoHS: RoHS Compliant; Category: Inductors, Coils, Chokes; Stock 1: 7479; Pricing 1: 1=0.17, 10=0.156, 25=0.1396, 50=0.1212, 100=0.1087, 250=0.10092, 500=0.09318, 750=0.08851, 1000=0.08075 (EUR); Packaging: Cut Tape (CT); Part Status: Active; Inductance: 10nH; Current Rating: 800mA; Current - Saturation: -; Ratings: -; Operating Temperature: -55°C ~ 125°C; Mounting Type: Surface Mount; Package / Case: 0603 (1608 Metric); Size / Dimension: 0.063" L x 0.031" W (1.60mm x 0.80mm); Height - Seated (Max): 0.039" (1.00mm); ComponentLink1URL: http://search.murata.co.jp/Ceramy/image/img/PDF/ENG/L0075S0080LQW18A_10.pdf; ComponentLink1Description: http://search.murata.co.jp/Ceramy/image/img/PDF/ENG/L0075S0080LQW18A_10.pdf; Supplier 2: Digi-Key; Supplier Part Number 2: 490-3103-1-ND; Manufacturer 2: Murata Electronics North America; Manufacturer Part Number 2: GJM1555C1H5R6CB01D; Stock 2: 38361; Pricing 2: 1=0.09, 10=0.054, 50=0.0294, 100=0.0248, 250=0.02028, 500=0.01734, 1000=0.0135, 5000=0.01125 (EUR); Features: High Q, Low Loss; Applications: RF, Microwave, High Frequency; Failure Rate: *; Thickness (Max): 0.022" (0.55mm); Lead Spacing: -; Lead Style: -; ComponentLink2URL: http://www.murata.com/~/media/webrenewal/support/library/catalog/products/capacitor/mlcc/c02e.pdf; ComponentLink2Description: http://www.murata.com/~/media/webrenewal/support/library/catalog/products/capacitor/mlcc/c02e.pdf; Manufacturer: Murata Electronics North America; Manufacturer Part Number: LQW18AN10NG10D; Supplier 3: Digi-Key; Supplier Part Number 3: 490-10460-1-ND; Stock: 125509; Pricing: 1=0.08, 10=0.044, 100=0.0195, 500=0.01392, 1000=0.01094, 2500=0.00994, 5000=0.00915 (EUR); ComponentLink3URL: http://search.murata.co.jp/Ceramy/image/img/A01X/G101/ENG/GRM155R6YA224KE01-01.pdf; ComponentLink3Description: http://search.murata.co.jp/Ceramy/image/img/A01X/G101/ENG/GRM155R6YA224KE01-01.pdf; Supplier 4: Arrow; Supplier Part Number 4: LQP03TN6N8J02D; Mount: Surface Mount; Case/Package: 0201; Weight: 6E-06oz; Case Code (Metric): 0603; Case Code (Imperial): 0201; Core Material: Non-Magnetic; Min Operating Temperature: -55°C; Max Operating Temperature: 125°C; Package Quantity: 15000; Composition: Thin Film; Termination: SMD/SMT; DC Current: 300mA; Military Standard: Not; Length: 0.024inch; Height: 0.3mm; Depth: 0.33mm; Width: 0.012inch; Radiation Hardening: No; ComponentLink4URL: http://components.arrow.com/part/dataview/49670612S8721694N2606; ComponentLink4Description: http://components.arrow.com/part/dataview/49670612S8721694N2606; ComponentLink5URL: http://components.arrow.com/part/dataview/0323_03061082; ComponentLink5Description: http://components.arrow.com/part/dataview/0323_03061082; ComponentLink6URL: http://www.murata.com/~/media/webrenewal/support/library/catalog/products/inductor/chip/o05e.ashx; ComponentLink6Description: http://www.murata.com/~/media/webrenewal/support/library/catalog/products/inductor/chip/o05e.ashx; ComponentLink7URL: http://psearch.en.murata.com/inductor/product/LQP03TN6N8J02%23.pdf; ComponentLink7Description: http://psearch.en.murata.com/inductor/product/LQP03TN6N8J02%23.pdf; ComponentLink8URL: http://www.mouser.com/ds/2/281/c51e-794816.pdf; ComponentLink8Description: http://www.mouser.com/ds/2/281/c51e-794816.pdf; ComponentLink9URL: http://search.murata.co.jp/Ceramy/image/img/PDF/CHN/L0075S0084LQP03T_02.pdf; ComponentLink9Description: http://search.murata.co.jp/Ceramy/image/img/PDF/CHN/L0075S0084LQP03T_02.pdf
footprint C0603-ss
pins: 1, 2

## MAX4003EUA+T
designator U?, comment Log Detect
IC LOG AMP RF DETECT 45DB 8-MSOP; Manufacturer: Maxim Integrated; Manufacturer Part Number: MAX4003EUA+T; Frequency: 100MHz ~ 2.5GHz; RF Type: Cellular, TDMA, CDMA, GPRS, GSM; Input Range: -45dBm ~ 0dBm; Voltage - Supply: 2.7 V ~ 5 V; Supplier 1: Digi-Key; Supplier Part Number 1: MAX4003EUA+TCT-ND; RoHS: RoHS Compliant; Category: RF/IF and RFID; Stock: 3148; Pricing: 1=2.36, 10=2.23, 25=1.7836, 50=1.6944, 100=1.5606, 250=1.48032, 500=1.4268 (EUR); Packaging: Cut Tape (CT); Part Status: Active; Accuracy: -; Package / Case: 8-TSSOP, 8-MSOP (0.118", 3.00mm Width); Supplier Device Package: 8-uMAX; ComponentLink1URL: http://datasheets.maximintegrated.com/en/ds/MAX4003.pdf; ComponentLink1Description: http://datasheets.maximintegrated.com/en/ds/MAX4003.pdf
footprint MAX4003 (µmax)
pins: 1 RFIN, 2 /SHDN, 3 GND, 4 CLPF, 5 GND, 6 NC, 7 OUT, 8 VCC

## MC0805B122K500CT
designator C?, comment 1.2nF
MULTICOMP         MC0805B122K500CT            SMD Multilayer Ceramic Capacitor, MC Series, 1200 pF,  10%, X7R, 50 V, 0805 [2012 Metric]; Voltage Rating: 50V; Voltage: 16V; Supplier 1: Farnell; Supplier Part Number 1: 1759228; Manufacturer: Multicomp; Manufacturer Part Number: MC0805B122K500CT; RoHS: Yes; Stock: 3234; Pricing: 10 = 0.07560, 100 = 0.05120, 500 = 0.02990, 1000 = 0.02740 (CHF); Case/Package: 0805; Case Code (Metric): 2012; Case Code (Imperial): 0805; Min Operating Temperature: -55°C; Max Operating Temperature: 125°C; Tolerance: 10%; Capacitance: 1.2nF; Dielectric: X7R; Packaging: Cut Tape; Voltage Rating (DC): 50V; REACH SVHC: Unknown; Supplier 2: Farnell; Supplier Part Number 2: 1828801; Mount: Surface Mount; Number of Pins: 2; Package Quantity: 1; Termination: SMD/SMT; Length: 1.6mm; Height: 0.8mm; Width: 0.8mm; Thickness: 0.035inch; Depth: 0.8mm; Radiation Hardening: No; Lead Free: Lead Free; ComponentLink1URL: http://components.arrow.com/part/dataview/41894212S8438040N2606; ComponentLink1Description: http://components.arrow.com/part/dataview/41894212S8438040N2606; ComponentLink2URL: http://psearch.murata.com/capacitor/product/GRM188R61C105KA93%23.pdf; ComponentLink2Description: http://psearch.murata.com/capacitor/product/GRM188R61C105KA93%23.pdf; ComponentLink3URL: https://www.murata.com/~/media/webrenewal/support/library/catalog/products/capacitor/mlcc/c02e.ashx?la=en-us; ComponentLink3Description: https://www.murata.com/~/media/webrenewal/support/library/catalog/products/capacitor/mlcc/c02e.ashx?la=en-us; ComponentLink4URL: http://psearch.en.murata.com/capacitor/product/GRM188R61C105KA93%23.pdf; ComponentLink4Description: http://psearch.en.murata.com/capacitor/product/GRM188R61C105KA93%23.pdf; ComponentLink5URL: http://www.farnell.com/datasheets/608985.pdf; ComponentLink5Description: http://www.farnell.com/datasheets/608985.pdf; ComponentLink6URL: http://search.murata.co.jp/Ceramy/image/img/w_hinm/L0005E.pdf; ComponentLink6Description: http://search.murata.co.jp/Ceramy/image/img/w_hinm/L0005E.pdf
footprint C0805-ss
pins: 1, 2

## MCRF03N4R7C250CT
designator C?, comment 4p7
MULTICOMP - MCRF03N4R7C250CT - HF-KONDENSATOR, NP0, 4.7PF, 25V, 0201; Kapazität: 4.7; Nennspannung: 25; Produktpalette: Baureihe MCRF; Kapazitätstoleranz: ± 0.25; Verpackung: Gurtabschnitt; Betriebstemperatur, max.: 125; Bauform - Kondensator: 0201 [Metrisch 0603]; SVHC: No SVHC (07-Jul-2017); Betriebstemperatur, min.: -55; Kapazitätstoleranz ±: ± 0.25pF<!--FANDB--><div class="features-and-benefits-container"><div class="features-and-benefits-list"><ul class="features-and-benefits-list-list"><li class="features-and-benefits-list-item">Multicomp products are rated 4.6 out of 5 stars</li><li class="features-and-benefits-list-item">12-month limited warranty *view Terms & Conditions for details</li><li class="features-and-benefits-list-item">96; Supplier 1: Farnell; Supplier Part Number 1: 2310349; Manufacturer: MULTICOMP; Manufacturer Part Number: MCRF03N4R7C250CT; RoHS: YES; Stock: 48054; Pricing: 10=0.0137, 100=0.0099, 500=0.0089, 2500=0.0073, 7500=0.0059, 15000=0.0053, 75000=0.0045, 150000=0.0044 (EUR); Qualifizierungsstandard der Automobilindustrie: -; ComponentLink1URL: http://www.farnell.com/datasheets/1825576.pdf; ComponentLink1Description: http://www.farnell.com/datasheets/1825576.pdf
footprint C0201-RF
pins: 1, 2

## MMZ1005A222ETD25
designator FB?, comment 2.2 kOhm @ 100MHz
FERRITE BEAD 2.2 KOHM 0402 1LN; Manufacturer: TDK Corporation; Manufacturer Part Number: MMZ1005A222ETD25; Filter Type: Signal Line; Number of Lines: 1; Current Rating (Max): 150mA; DC Resistance (DCR) (Max): 2.2 Ohm; Exact Component Match: yes; Supplier 1: Digi-Key; Supplier Part Number 1: 445-172774-6-ND; RoHS: RoHS Compliant; Category: Filters; Stock 1: 183; Pricing 1: 1=0.18, 10=0.14, 100=0.0897, 250=0.07572, 500=0.06774, 1000=0.05779, 5000=0.05381 (EUR); Packaging: Digi-Reel®; Part Status: Active; Impedance @ Frequency: 2.2 kOhm @ 100MHz; Ratings: AEC-Q200; Operating Temperature: -55°C ~ 125°C; Package / Case: 0402 (1005 Metric); Mounting Type: Surface Mount; Height (Max): 0.022" (0.55mm); Size / Dimension: 0.039" L x 0.020" W (1.00mm x 0.50mm); ComponentLink1URL: https://product.tdk.com/info/en/catalog/datasheets/beads_automotive_signal_mmz1005-e_en.pdf; ComponentLink1Description: https://product.tdk.com/info/en/catalog/datasheets/beads_automotive_signal_mmz1005-e_en.pdf; Manufacturer 1: TDK Corporation; Manufacturer Part Number 1: MMZ1005A222ETD25
footprint L0402-RF
pins: 1, 2

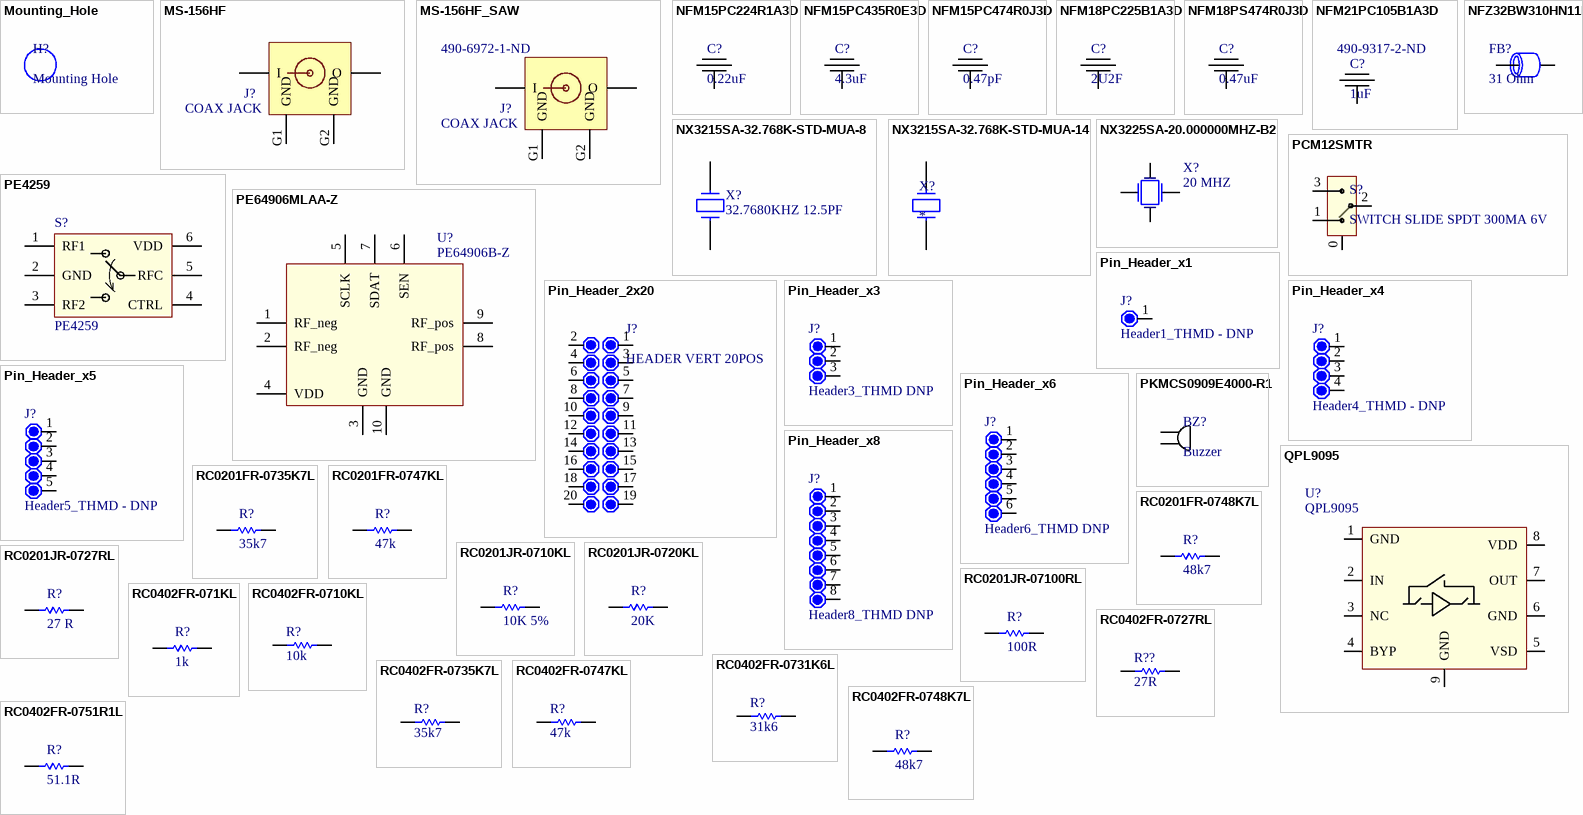
[diagram p4: symbols Mounting_Hole to RC0402FR-0751R1L]

## Mounting_Hole
designator H?, comment Mounting Hole  (no BOM)
footprint Mounting_Hole_4mm
footprint Mounting_Hole_3.175mm (Heat Sink - Mounting_Hole)

## MS-156HF
designator J?, comment COAX JACK
CONN COAX JACK STR 50 OHM SMD; Manufacturer 1: Hirose Electric Co Ltd; Manufacturer Part Number 1: MS-156HF(01); Connector Style: Coaxial Switch - 4mm Plug Dia; Connector Type: Receptacle, Female Socket; Contact Termination: Solder; Impedance: 50 Ohm; Frequency - Max: 6GHz; Body Material: Phosphor Bronze; Body Finish: Gold; Center Contact Material: Beryllium Copper; Dielectric Material: Polyamide (PA), Nylon 6T; Coupler Type: Standard; Frequency: 700MHz ~ 1GHz; Coupling Factor: 10.9dB; Insertion Loss: 0.21dB; Power - Max: 2W; Return Loss: 17.5dB; Exact Component Match: yes; Supplier 1: Digi-Key; Supplier Part Number 1: H11669-ND; RoHS: RoHS Compliant; Category: Connectors, Interconnects; Stock 1: 10; Pricing 1: 1=0.84, 10=0.735, 25=0.6912, 50=0.6626, 100=0.6337, 250=0.57612, 500=0.51852, 1000=0.4609, 2500=0.41769 (EUR); Packaging: Bulk; Part Status: Active; Shield Termination: Solder; Mounting Type: Surface Mount; Cable Group: -; Fastening Type: Snap-On; Features: Internal Switch; Housing Color: Gold; Ingress Protection: -; Center Contact Plating: Gold; Voltage Rating: -; Operating Temperature: -40°C ~ 85°C; ComponentLink1URL: https://www.hirose.com/product/en/download_file/key_name/MS-156HF/category/Catalog/doc_file_id/49714/?file_category_id=4&item_id=394&is_series=1; ComponentLink1Description: https://www.hirose.com/product/en/download_file/key_name/MS-156HF/category/Catalog/doc_file_id/49714/?file_category_id=4&item_id=394&is_series=1; Supplier 2: Digi-Key; Supplier Part Number 2: 1173-1084-1-ND; Manufacturer 2: Anaren; Manufacturer Part Number 2: DC0710J5010AHF; Stock 2: 8788; Pricing 2: 1=0.82, 10=0.735, 25=0.648, 100=0.5833, 250=0.50772, 500=0.4537 (EUR); Applications: General Purpose; Isolation: -; Package / Case: 0805 (2012 Metric); Supplier Device Package: 0805; ComponentLink2URL: https://www.anaren.com/sites/default/files/Part-Datasheets/DC0710J5010AHF_Datasheet_RevA.pdf; ComponentLink2Description: https://www.anaren.com/sites/default/files/Part-Datasheets/DC0710J5010AHF_Datasheet_RevA.pdf; Manufacturer: Hirose Electric Co Ltd; Manufacturer Part Number: MS-156HF(01)
footprint MS-156HF (Subminiature Coaxial Switch)
pins: G1 GND, G2 GND, IN I, OUT O

## MS-156HF_SAW
designator J?, comment COAX JACK  Supplier Part Number 3: 490-6972-1-ND
CONN COAX JACK STR 50 OHM SMD; Manufacturer 1: Hirose Electric Co Ltd; Manufacturer Part Number 1: MS-156HF(01); Connector Style: Coaxial Switch - 4mm Plug Dia; Connector Type: Receptacle, Female Socket; Contact Termination: Solder; Impedance: 50 Ohm; Frequency - Max: 6GHz; Body Material: Phosphor Bronze; Body Finish: Gold; Center Contact Material: Beryllium Copper; Dielectric Material: Polyamide (PA), Nylon 6T; Coupler Type: Standard; Frequency: 700MHz ~ 1GHz; Coupling Factor: 10.9dB; Insertion Loss: 0.21dB; Power - Max: 2W; Return Loss: 17.5dB; Exact Component Match: yes; Capacitance: 2.2µF; Tolerance: ±20%; Voltage - Rated: 10V; Current: 4A; DC Resistance (DCR) (Max): 10 mOhm; Material - Core: Air; Shielding: Unshielded; DC Resistance (DCR): 1.25 Ohm Max; Supplier 1: Digi-Key; Supplier Part Number 1: H11669-ND; RoHS: RoHS Compliant; Category: Connectors, Interconnects; Stock 1: 10; Pricing 1: 1=0.84, 10=0.735, 25=0.6912, 50=0.6626, 100=0.6337, 250=0.57612, 500=0.51852, 1000=0.4609, 2500=0.41769 (EUR); Packaging: Bulk; Part Status: Active; Shield Termination: Solder; Mounting Type: Surface Mount; Cable Group: -; Fastening Type: Snap-On; Features: Internal Switch; Housing Color: Gold; Ingress Protection: -; Center Contact Plating: Gold; Voltage Rating: -; Operating Temperature: -40°C ~ 85°C; ComponentLink1URL: https://www.hirose.com/product/en/download_file/key_name/MS-156HF/category/Catalog/doc_file_id/49714/?file_category_id=4&item_id=394&is_series=1; ComponentLink1Description: https://www.hirose.com/product/en/download_file/key_name/MS-156HF/category/Catalog/doc_file_id/49714/?file_category_id=4&item_id=394&is_series=1; Supplier 2: Digi-Key; Supplier Part Number 2: 1173-1084-1-ND; Manufacturer 2: Anaren; Manufacturer Part Number 2: DC0710J5010AHF; Stock 2: 8788; Pricing 2: 1=0.82, 10=0.735, 25=0.648, 100=0.5833, 250=0.50772, 500=0.4537 (EUR); Applications: General Purpose; Isolation: -; Package / Case: 0805 (2012 Metric); Supplier Device Package: 0805; ComponentLink2URL: https://www.anaren.com/sites/default/files/Part-Datasheets/DC0710J5010AHF_Datasheet_RevA.pdf; ComponentLink2Description: https://www.anaren.com/sites/default/files/Part-Datasheets/DC0710J5010AHF_Datasheet_RevA.pdf; Manufacturer: Hirose Electric Co Ltd; Manufacturer Part Number: MS-156HF(01); Supplier 3: Digi-Key; Stock: 3361; Pricing 3: 1=0.25, 10=0.237, 25=0.2256, 50=0.2184, 100=0.2112, 250=0.20028, 500=0.1675, 1000=0.12999 (EUR); Temperature Coefficient: -; Ratings: -; Size / Dimension: 0.063" L x 0.031" W (1.60mm x 0.80mm); Height (Max): 0.028" (0.70mm); Thread Size: -; ComponentLink3URL: http://search.murata.co.jp/Ceramy/image/img/A01X/G101/ENG/NFM18PC225B1A3-01.pdf; ComponentLink3Description: http://search.murata.co.jp/Ceramy/image/img/A01X/G101/ENG/NFM18PC225B1A3-01.pdf; Supplier 4: Digi-Key; Supplier Part Number 4: 490-15137-1-ND; Pricing: 1=0.08, 10=0.064, 100=0.0424, 500=0.0354, 1000=0.02973, 2500=0.02548 (EUR); Type: Multilayer; Height - Seated (Max): 0.022" (0.55mm); ComponentLink4URL: http://search.murata.co.jp/Ceramy/image/img/P02/JELF243B-0010.pdf; ComponentLink4Description: http://search.murata.co.jp/Ceramy/image/img/P02/JELF243B-0010.pdf
footprint MS-156HF_SAW (Coax swappable with SAW)
pins: G1 GND, G2 GND, IN I, OUT O

## NFM15PC224R1A3D
designator C?, comment 0.22uF
CAP FEEDTHRU 0.22UF 20% 10V 0402; Manufacturer: Murata; Manufacturer Part Number: NFM15PC224R1A3D; Capacitance: 220nF; Current: 2A; DC Resistance (DCR): 30mR; Supplier 1: Digi-Key; Supplier Part Number 1: 490-16919-1-ND; Stock: 18965; Pricing: 1=0.1, 10=0.094, 25=0.0892, 50=0.0864, 100=0.0836, 250=0.07924, 500=0.06628, 1000=0.05144, 5000=0.04611 (USD); Mount: Surface Mount; Case/Package: 0402; Min Operating Temperature: -55°C; Max Operating Temperature: 105°C; Package Quantity: 10000; Packaging: Tape and Reel; Voltage Rating: 10V; Tolerance: 20%; Length: 0.039inch; Height: 0.02inch; Width: 0.02inch
footprint NFM15PC (Feed Through Capacitor)
pins: 1, 2, 3

## NFM15PC435R0E3D
designator C?, comment 4.3uF
CAP FEEDTHRU 4.3UF 20% 2.5V 0402; Manufacturer: Murata Electronics North America; Manufacturer Part Number: NFM15PC435R0E3D; DC Resistance (DCR) (Max): 30 mOhm; Supplier 1: Digi-Key; Supplier Part Number 1: 490-13393-1-ND; RoHS: RoHS Compliant; Category: Filters; Stock: 48648; Pricing: 1=0.09, 10=0.08, 25=0.0756, 50=0.0734, 100=0.0709, 250=0.06728, 500=0.05626, 1000=0.04367, 5000=0.03915 (EUR); Packaging: Cut Tape (CT); Part Status: Active; Tolerance: ±20%; Voltage - Rated: 2.5V; Operating Temperature: -55°C ~ 85°C; Insertion Loss: -; Temperature Coefficient: -; Ratings: -; Mounting Type: Surface Mount; Package / Case: 0402 (1005 Metric); Size / Dimension: 0.039" L x 0.020" W (1.00mm x 0.50mm); Height (Max): 0.020" (0.50mm); Thread Size: -; ComponentLink1URL: http://search.murata.co.jp/Ceramy/image/img/A01X/G101/ENG/NFM15PC435R0E3-01.pdf; ComponentLink1Description: http://search.murata.co.jp/Ceramy/image/img/A01X/G101/ENG/NFM15PC435R0E3-01.pdf
footprint NFM15PC (Feed Through Capacitor)
pins: 1, 2, 3